# Altium schematic symbol library MUSBR2M5C0X4BP.SchLib: 1 symbol
Pins are listed as number, name and electrical type; pins without a type are passive.

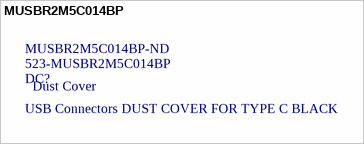
[diagram p0: symbol MUSBR2M5C014BP]

## MUSBR2M5C014BP
designator DC?, comment USB Connectors DUST COVER FOR TYPE C BLACK  Supplier Part Number 1: 523-MUSBR2M5C014BP  Supplier Part Number 2: MUSBR2M5C014BP-ND
Supplier 1: Mouser; Supplier 2: Digi-Key
footprint MUSBR2M5C0X4BP (USB Connectors DUST COVER FOR TYPE C BLACK)
text: Dust Cover